# Altium footprint library LMS8117ADT-3.3.PcbLib: 3 footprints
Each footprint in its own frame and in the unit in brackets; x right, y up, seen from the top. Pads: shape width x height; smd on the part's side, far side on the other; paste and mask are expansions set on the pad; w line width, h text height; cw(c..) or ccw(c..) is an arc to the next point about the centre after c.
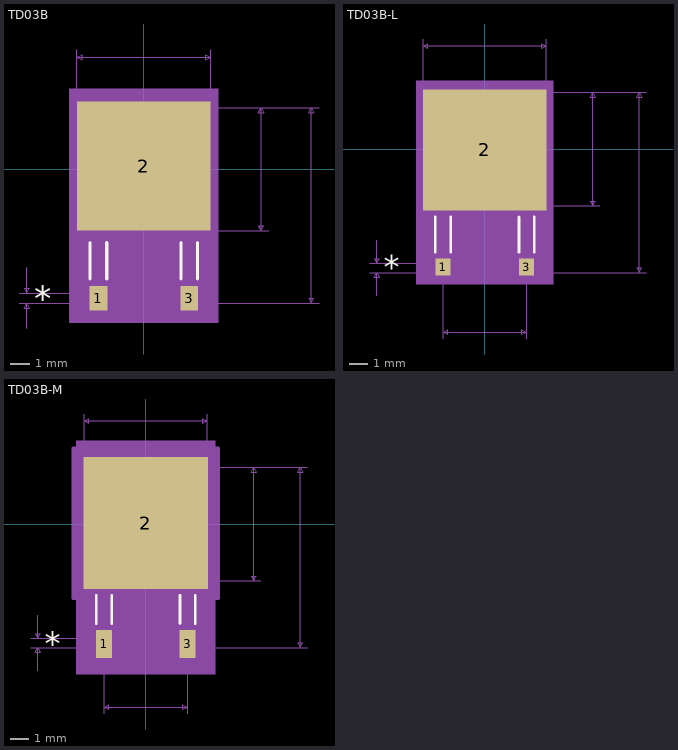
[diagram p0: the footprints below, top view; thin cyan lines are the x and y axes]

## TD03B [mil]
pads (3):
  rect 35x48 smd: 1(-89.96,-256) 3(89.96,-256)
  rect 265x256 smd: 2(0,6)
Top Overlay:
  lines w6: -106.46,-218 -106.46,-146 ; -73.46,-218 -73.46,-146 ; 73.46,-218 73.46,-146 ; 106.46,-218 106.46,-146
  text "*" at -217.42,-281 h50
Mechanical 5:
  region: -147.5,159 147.5,159 147.5,-305 -147.5,-305
Mechanical 7:
  lines w1: -247.5,-266 0,-266 347.5,-266 ; -247.5,-246 0,-246 ; -232.5,-316 -232.5,-266 ; -232.5,-196 -232.5,-246 ; -132.5,0 -132.5,237 ; 0,-122 247.5,-122 ; 132.5,0 132.5,237 ; 247.5,122 0,122 347.5,122 ; -232.5,-266 -227.5,-276 -237.5,-276 -232.5,-266 ; -232.5,-246 -227.5,-236 -237.5,-236 -232.5,-246 ; -132.5,222 -122.5,217 -122.5,227 -132.5,222 ; -132.5,222 132.5,222 ; 132.5,222 122.5,217 122.5,227 132.5,222 ; 232.5,-122 237.5,-112 227.5,-112 232.5,-122 ; 232.5,-122 232.5,122 ; 232.5,122 237.5,112 227.5,112 232.5,122 ; 332.5,-266 337.5,-256 327.5,-256 332.5,-266 ; 332.5,-266 332.5,122 ; 332.5,122 337.5,112 327.5,112 332.5,122
  text ".02in/.508mm" at -402.5,-268.5 h25
  text ".388in/9.855mm" at 352.5,-146.5 h25
  text ".265in/6.731mm" at -87.5,242 h25
  text ".244in/6.198mm" at 252.5,-12.5 h25
  text "Alt 2 Padstyle: OX90Y60D30P" at -337.5,-641 h50
  text "Alt 1 Padstyle: OX60Y90D30P" at -337.5,-566 h50
  text "Large Padstyle: RX265Y256D0T" at -350,-491 h50
  text "Default Padstyle: RX35Y48D0T" at -350,-416 h50
Mechanical 13:
  lines w1: -16.5,-122 -16.5,-159 16.5,-159 16.5,-122 ; -132.5,-122 -132.5,122 132.5,122 132.5,-122 -132.5,-122 ; -106.46,-266 -73.46,-266 -73.46,-122 -106.46,-122 -106.46,-266 ; 73.46,-266 106.46,-266 106.46,-122 73.46,-122 73.46,-266
  text "*" at -217.42,-281 h50
Mechanical 15:
  region: 142.5,-290 -142.5,-290 -142.5,144 142.5,144
  lines w6: -142.5,-290 142.5,-290 142.5,144 -142.5,144 -142.5,-290
3D body: height 10, standoff 0, extent 0,0 10,10
3D body "NDP0003B.stp": height 90.55, standoff -6.69, extent -129.53,-260.08 129.53,130.08

## TD03B-L [mil]
pads (3):
  rect 33x36 smd paste+0 mask+0: 1(-89.96,-254) 3(89.96,-254)
  rect 265x260 smd paste+0 mask+0: 2(0,-2)
Top Overlay:
  lines w6: -106.46,-222 -106.46,-146 ; -73.46,-222 -73.46,-146 ; 73.46,-222 73.46,-146 ; 106.46,-222 106.46,-146
  text "*" at -217.42,-279 h50
Mechanical 5:
  region: -147.5,147 147.5,147 147.5,-291 -147.5,-291
Mechanical 7:
  lines w1: -247.5,-266 0,-266 347.5,-266 ; -247.5,-246 0,-246 ; -232.5,-316 -232.5,-266 ; -232.5,-196 -232.5,-246 ; -132.5,0 -132.5,237 ; -89.96,-409 -89.96,-194 ; 0,-122 247.5,-122 ; 89.96,-409 89.96,-194 ; 132.5,0 132.5,237 ; 247.5,122 0,122 347.5,122 ; -232.5,-266 -237.5,-276 -227.5,-276 -232.5,-266 ; -232.5,-246 -237.5,-236 -227.5,-236 -232.5,-246 ; -132.5,222 132.5,222 ; -132.5,222 -122.5,227 -122.5,217 -132.5,222 ; -89.96,-394 89.96,-394 ; -89.96,-394 -79.96,-389 -79.96,-399 -89.96,-394 ; 89.96,-394 79.96,-389 79.96,-399 89.96,-394 ; 132.5,222 122.5,227 122.5,217 132.5,222 ; 232.5,-122 232.5,122 ; 232.5,-122 227.5,-112 237.5,-112 232.5,-122 ; 232.5,122 227.5,112 237.5,112 232.5,122 ; 332.5,-266 332.5,122 ; 332.5,-266 327.5,-256 337.5,-256 332.5,-266 ; 332.5,122 327.5,112 337.5,112 332.5,122
  text "Default Padstyle: RX33Y36D0T" at -350,-616 h50
  text "Large Padstyle: RX265Y260D0T" at -350,-691 h50
  text "Alt 1 Padstyle: OX60Y90D30P" at -337.5,-766 h50
  text "Alt 2 Padstyle: OX90Y60D30P" at -337.5,-841 h50
  text "0.244in/6.198mm" at 252.5,-12.5 h25
  text "0.265in/6.731mm" at -93.75,242 h25
  text "0.388in/9.855mm" at 352.5,-144.5 h25
  text "0.02in/0.508mm" at -427.5,-268.5 h25
  text "0.18in/4.57mm" at -81.25,-439 h25
Mechanical 13:
  lines w1: -16.5,-122 -16.5,-159 16.5,-159 16.5,-122 ; -132.5,-122 132.5,-122 132.5,122 -132.5,122 -132.5,-122 ; -106.46,-266 -106.46,-122 -73.46,-122 -73.46,-266 -106.46,-266 ; 73.46,-266 73.46,-122 106.46,-122 106.46,-266 73.46,-266
  text "*" at -102.46,-137 h50
Mechanical 15:
  region: -110.46,-136 -136.5,-136 -136.5,132 136.5,132 136.5,-136 110.46,-136 110.46,-276 69.46,-276 69.46,-240 -69.46,-240 -69.46,-276 -110.46,-276
  lines w6: -136.5,-136 -136.5,132 136.5,132 136.5,-136 110.46,-136 110.46,-276 69.46,-276 69.46,-240 -69.46,-240 -69.46,-276 -110.46,-276 -110.46,-136 -136.5,-136
3D body: height 10, standoff 0, extent 0,0 10,10

## TD03B-M [mil]
pads (3):
  rect 35x60 smd paste+0 mask+0: 1(-89.96,-258) 3(89.96,-258)
  rect 269x284 smd paste+0 mask+0: 2(0,2)
Top Overlay:
  lines w6: -106.46,-214 -106.46,-153.1 ; -73.46,-214 -73.46,-153.1 ; 73.46,-214 73.46,-153.1 ; 106.46,-214 106.46,-153.1
  text "*" at -217.42,-283 h50
Mechanical 5:
  region: -149.5,179 149.5,179 149.5,-323 -149.5,-323
Mechanical 7:
  lines w1: -247.5,-266 0,-266 347.5,-266 ; -247.5,-246 0,-246 ; -232.5,-316 -232.5,-266 ; -232.5,-196 -232.5,-246 ; -132.5,0 -132.5,237 ; -89.96,-409 -89.96,-194 ; 0,-122 247.5,-122 ; 89.96,-409 89.96,-194 ; 132.5,0 132.5,237 ; 247.5,122 0,122 347.5,122 ; -232.5,-266 -227.5,-276 -237.5,-276 -232.5,-266 ; -232.5,-246 -227.5,-236 -237.5,-236 -232.5,-246 ; -132.5,222 -122.5,217 -122.5,227 -132.5,222 ; -132.5,222 132.5,222 ; -89.96,-394 -79.96,-399 -79.96,-389 -89.96,-394 ; -89.96,-394 89.96,-394 ; 89.96,-394 79.96,-399 79.96,-389 89.96,-394 ; 132.5,222 122.5,217 122.5,227 132.5,222 ; 232.5,-122 237.5,-112 227.5,-112 232.5,-122 ; 232.5,-122 232.5,122 ; 232.5,122 237.5,112 227.5,112 232.5,122 ; 332.5,-266 337.5,-256 327.5,-256 332.5,-266 ; 332.5,-266 332.5,122 ; 332.5,122 337.5,112 327.5,112 332.5,122
  text "0.18in/4.57mm" at -81.25,-439 h25
  text "0.02in/0.508mm" at -427.5,-268.5 h25
  text "0.388in/9.855mm" at 352.5,-148.5 h25
  text "0.265in/6.731mm" at -93.75,242 h25
  text "0.244in/6.198mm" at 252.5,-12.5 h25
  text "Alt 2 Padstyle: OX90Y60D30P" at -337.5,-841 h50
  text "Alt 1 Padstyle: OX60Y90D30P" at -337.5,-766 h50
  text "Large Padstyle: RX269Y284D0T" at -350,-691 h50
  text "Default Padstyle: RX35Y60D0T" at -350,-616 h50
Mechanical 13:
  lines w1: -16.5,-122 -16.5,-159 16.5,-159 16.5,-122 ; -132.5,-122 -132.5,122 132.5,122 132.5,-122 -132.5,-122 ; -106.46,-266 -73.46,-266 -73.46,-122 -106.46,-122 -106.46,-266 ; 73.46,-266 106.46,-266 106.46,-122 73.46,-122 73.46,-266
  text "*" at -102.46,-137 h50
Mechanical 15:
  region: -126.46,-160 -156.5,-160 -156.5,164 156.5,164 156.5,-160 126.46,-160 126.46,-308 53.46,-308 53.46,-248 -53.46,-248 -53.46,-308 -126.46,-308
  lines w6: -156.5,-160 -126.46,-160 -126.46,-308 -53.46,-308 -53.46,-248 53.46,-248 53.46,-308 126.46,-308 126.46,-160 156.5,-160 156.5,164 -156.5,164 -156.5,-160
3D body: height 10, standoff 0, extent 0,0 10,10
3D body "NDP0003B.stp": height 96.55, standoff -0.69, extent -129.53,-270.07 129.52,120.08